# Altium footprint library MB1S.PcbLib: 1 footprints
Each footprint in its own frame and in the unit in brackets; x right, y up, seen from the top. Pads: shape width x height; smd on the part's side, far side on the other; paste and mask are expansions set on the pad; w line width, h text height; cw(c..) or ccw(c..) is an arc to the next point about the centre after c.
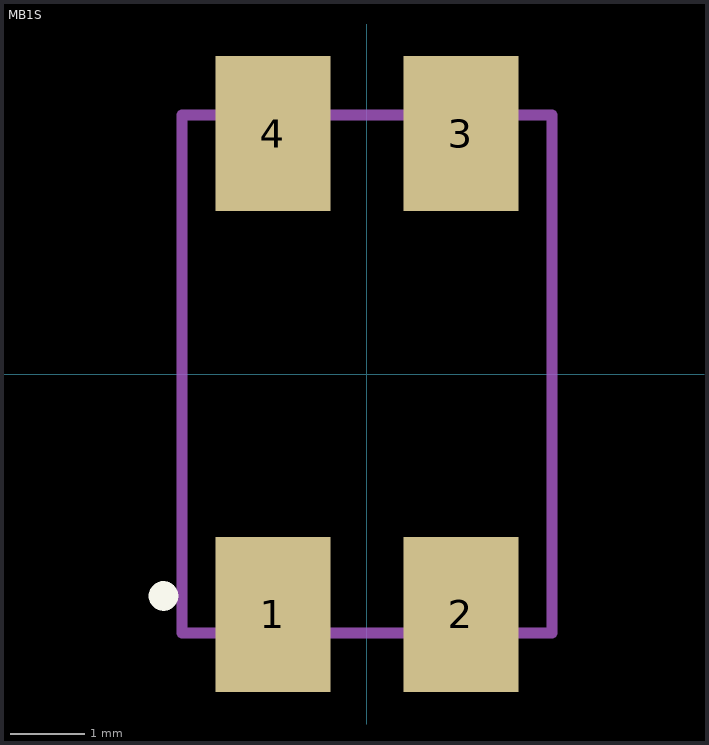
[diagram p0: the footprint, top view; thin cyan lines are the x and y axes]

## MB1S [mm] "SOIC4 W"
height 2.7
pads (4):
  rect 1.55x2.1 smd paste+0 mask+0: 1(-1.27,-3.25) 2(1.27,-3.25) 3(1.27,3.25) 4(-1.27,3.25)
Top Overlay:
  circle w0.2: c-2.75,-3 r0.1
Mechanical 15:
  lines w0.152: -2.5,-3.5 2.5,-3.5 2.5,3.5 -2.5,3.5 -2.5,-3.5
3D body "SOIC-4_ONS.step": height 2.9, standoff 0, extent -2.476,-3.53 2.476,3.48